# Altium footprint library resistencias_smd.PCBLIB: 183 footprints (part 5 of 12)
Each footprint in its own frame and in the unit in brackets; x right, y up, seen from the top. Pads: shape width x height; smd on the part's side, far side on the other; paste and mask are expansions set on the pad; w line width, h text height; cw(c..) or ccw(c..) is an arc to the next point about the centre after c.
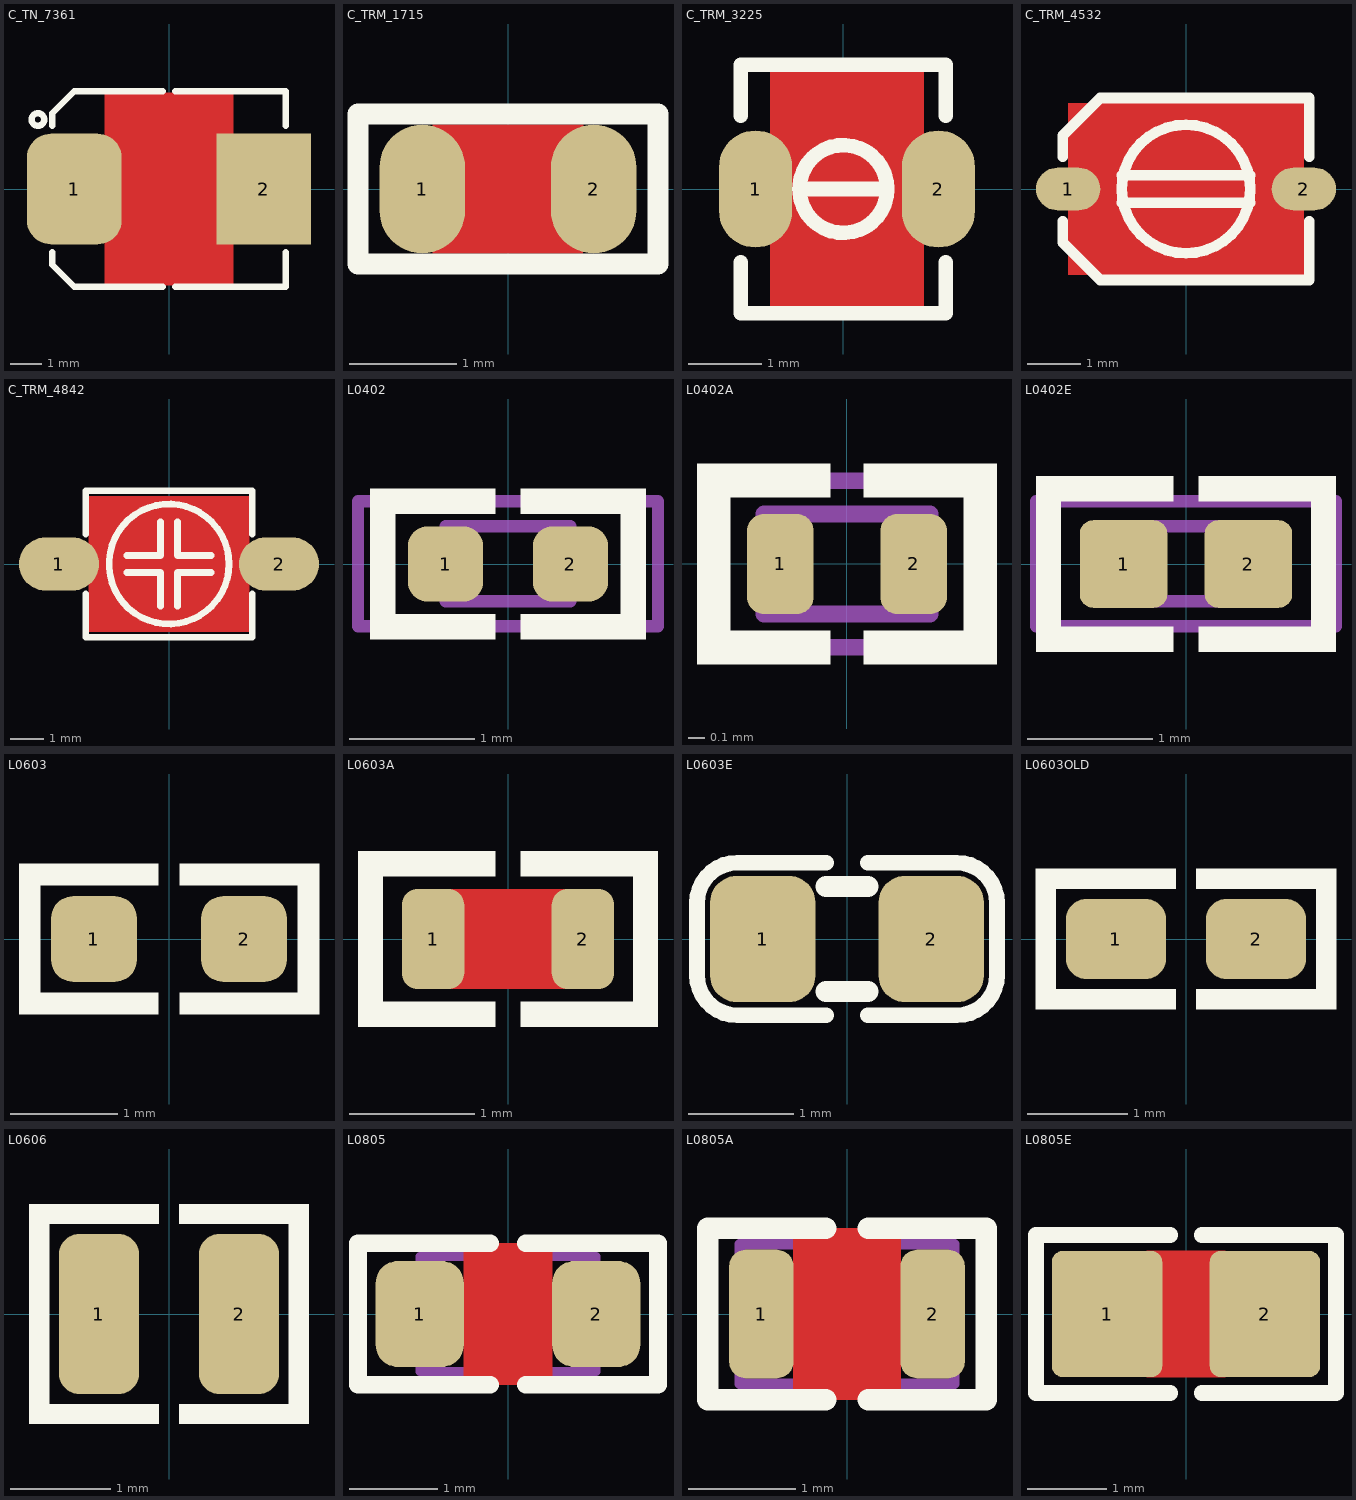
[diagram p4: the footprints below, top view; thin cyan lines are the x and y axes]

## C_TN_7361 [mm] "CAPACITOR, TAN V, 2924, 7361, 7.3X6.1mm"
pads (2):
  rrect50% 3x3.5 smd: 1(-3,0)
  rect 3x3.5 smd: 2(3,0)
Top Layer:
  pour cut-out: -2.032,3.048 -2.032,-3.048 2.032,-3.048 2.032,3.048
Top Overlay:
  circle w0.2: c-4.15,2.2 r0.2
  lines w0.2: -3.7,-2 -3.7,-2.4 -3,-3.1 -0.2,-3.1 ; -3.7,2 -3.7,2.4 -3,3.1 -0.2,3.1 ; 0.2,-3.1 3.7,-3.1 3.7,-2 ; 0.2,3.1 3.7,3.1 3.7,2
3D body "User Library-CT_V.step": height 3.45, standoff 0, extent -3.65,-3.05 3.65,3.05

## C_TRM_1715 [mm] "Cap, Trimmer TZR1 1.7mmX1.5mm"
pads (2):
  oval 0.8x1.2 smd mask+0.075: 1(-0.8,0) 2(0.8,0)
Top Layer:
  pour cut-out: -0.7,0.6 0.7,0.6 0.7,-0.6 -0.7,-0.6
Top Overlay:
  lines w0.2: -1.4,-0.7 -1.4,0.7 1.4,0.7 1.4,-0.7 -1.4,-0.7
3D body "User Library-TZR1.STEP": height 1, standoff -0.01, extent -0.864,-0.75 0.85,0.75

## C_TRM_3225 [mm] "Cap, Trimmer TZY2 3.2mmX2.5mm"
pads (2):
  oval 1x1.6 smd: 1(-1.2,0) 2(1.3,0)
Top Layer:
  pour cut-out: -1,1.7 1.1,1.7 1.1,-1.6 -1,-1.6
Top Overlay:
  circle w0.2: c0,0 r0.6
  lines w0.2: -1.4,-1 -1.4,-1.7 1.4,-1.7 1.4,-1 ; -1.4,1 -1.4,1.7 1.4,1.7 1.4,1 ; -0.6,0 0.6,0
3D body "User Library-tzy2seriestrimcap.step": height 1.24, standoff -0.01, extent -1.25,-1.6 1.25,1.6

## C_TRM_4532 [mm] "Cap, Trimmer TZC3 4.5X3.2mm"
pads (2):
  oval 1.2x0.8 smd: 1(-2.2,0) 2(2.2,0)
Top Layer:
  pour cut-out: -2.2,1.6 2.2,1.6 2.2,-1.6 -2.2,-1.6
Top Overlay:
  circle w0.2: c0,0 r1.2
  lines w0.2: -2.3,-0.6 -2.3,-1 -1.6,-1.7 2.3,-1.7 2.3,-0.6 ; -2.3,0.6 -2.3,1 -1.6,1.7 2.3,1.7 2.3,0.6 ; -1.2,-0.254 1.2,-0.254 ; -1.2,0.254 1.2,0.254
3D body "User Library-TZC3P300A110R00.STEP": height 1.6, standoff 0, extent -2.25,-1.6 2.25,1.6

## C_TRM_4842 [mm] "Cap, Trimmer SMD 4.8x4.2mm"
pads (2):
  oval 2.4x1.6 smd: 1(-3.3,0) 2(3.3,0)
Top Layer:
  pour cut-out: -2.413,2.032 2.413,2.032 2.413,-2.032 -2.413,-2.032
Top Overlay:
  circle w0.2: c0,0 r1.8
  lines w0.2: -2.5,-0.9 -2.5,-2.2 2.5,-2.2 2.5,-0.9 ; -2.5,0.9 -2.5,2.2 2.5,2.2 2.5,0.9 ; -1.27,-0.254 -0.254,-0.254 -0.254,-1.27 ; -1.27,0.254 -0.254,0.254 -0.254,1.27 ; 0.254,-1.27 0.254,-0.254 1.27,-0.254 ; 0.254,1.27 0.254,0.254 1.27,0.254
3D body "User Library-trimmer.step": height 3.25, standoff 0, extent -3.523,-2.1 3.523,2.1

## L0402 [mm] "INDUCTOR, FERRITE BEAD, 0402, 1.0X0.5mm"
height 0.4
pads (2):
  rrect50% 0.6x0.6 smd mask+0.075: 1(-0.5,0) 2(0.5,0)
Top Overlay:
  region: 0.1,-0.4 0.1,-0.6 1.1,-0.6 1.1,-0.4
  region: 0.1,0.4 0.1,0.6 1.1,0.6 1.1,0.4
  region: 1.1,0.6 0.9,0.6 0.9,-0.6 1.1,-0.6
  region: -1.1,0.6 -0.9,0.6 -0.9,-0.6 -1.1,-0.6
  region: -0.1,0.4 -0.1,0.6 -1.1,0.6 -1.1,0.4
  region: -0.1,-0.4 -0.1,-0.6 -1.1,-0.6 -1.1,-0.4
Mechanical 13:
  lines w0.1: -0.5,-0.3 0.5,-0.3 0.5,0.3 -0.5,0.3 -0.5,-0.3
Mechanical 15:
  lines w0.1: -1.2,-0.5 -1.2,0.5 1.2,0.5 1.2,-0.5 -1.2,-0.5
3D body "User Library-Chip Inductor0402.step": height 0.6, standoff 0, extent -0.5,-0.25 0.5,0.25

## L0402A [mm] "INDUCTOR, FERRITE BEAD, 0402, 1.0X0.5mm"
height 0.4
pads (2):
  rrect50% 0.4x0.6 smd mask+0.075: 1(-0.4,0) 2(0.4,0)
Top Overlay:
  region: 0.1,-0.4 0.1,-0.6 0.9,-0.6 0.9,-0.4
  region: 0.1,0.4 0.1,0.6 0.9,0.6 0.9,0.4
  region: 0.9,0.6 0.7,0.6 0.7,-0.6 0.9,-0.6
  region: -0.9,0.6 -0.7,0.6 -0.7,-0.6 -0.9,-0.6
  region: -0.1,0.4 -0.1,0.6 -0.9,0.6 -0.9,0.4
  region: -0.1,-0.4 -0.1,-0.6 -0.9,-0.6 -0.9,-0.4
Mechanical 13:
  lines w0.1: -0.5,-0.3 -0.5,0.3 0.5,0.3 0.5,-0.3 -0.5,-0.3
Mechanical 15:
  lines w0.1: -0.8,-0.5 0.8,-0.5 0.8,0.5 -0.8,0.5 -0.8,-0.5
3D body "User Library-Chip Inductor0402.step": height 0.6, standoff 0, extent -0.5,-0.25 0.5,0.25

## L0402E [mm] "INDUCTOR, FERRITE BEAD, 0402, 1.0X0.5mm, EXPANDED PAD"
height 0.4
pads (2):
  rrect30% 0.7x0.7 smd mask+0.075: 1(-0.5,0) 2(0.5,0)
Top Overlay:
  region: 1.2,0.7 1,0.7 1,-0.7 1.2,-0.7
  region: 0.1,0.5 0.1,0.7 1.2,0.7 1.2,0.5
  region: 0.1,-0.5 0.1,-0.7 1.2,-0.7 1.2,-0.5
  region: -0.1,-0.5 -0.1,-0.7 -1.2,-0.7 -1.2,-0.5
  region: -0.1,0.5 -0.1,0.7 -1.2,0.7 -1.2,0.5
  region: -1.2,0.7 -1,0.7 -1,-0.7 -1.2,-0.7
Mechanical 13:
  lines w0.1: -0.5,-0.3 -0.5,0.3 0.5,0.3 0.5,-0.3 -0.5,-0.3
Mechanical 15:
  lines w0.1: -1.2,-0.5 1.2,-0.5 1.2,0.5 -1.2,0.5 -1.2,-0.5
3D body "User Library-Chip Inductor0402.step": height 0.6, standoff 0, extent -0.5,-0.25 0.5,0.25

## L0603 [mm] "INDUCTOR, FERRITE BEAD, 0603, 1.6X0.8mm"
height 0.6
pads (2):
  rrect50% 0.8x0.8 smd mask+0.05: 1(-0.7,0) 2(0.7,0)
Top Overlay:
  region: 0.1,-0.5 0.1,-0.7 1.4,-0.7 1.4,-0.5
  region: 0.1,0.5 0.1,0.7 1.4,0.7 1.4,0.5
  region: 1.4,0.7 1.2,0.7 1.2,-0.7 1.4,-0.7
  region: -1.4,0.7 -1.2,0.7 -1.2,-0.7 -1.4,-0.7
  region: -0.1,0.5 -0.1,0.7 -1.4,0.7 -1.4,0.5
  region: -0.1,-0.5 -0.1,-0.7 -1.4,-0.7 -1.4,-0.5
3D body "User Library-Chip Inductor0603.step": height 0.95, standoff 0, extent -0.8,-0.4 0.8,0.4

## L0603A [mm] "INDUCTOR, FERRITE BEAD, 0603, 1.6X0.8mm"
height 0.6
pads (2):
  rrect50% 0.5x0.8 smd mask+0.075: 1(-0.6,0) 2(0.6,0)
Top Layer:
  pour cut-out: -0.5,0.4 0.5,0.4 0.5,-0.4 -0.5,-0.4
Top Overlay:
  region: -1.2,0.7 -1,0.7 -1,-0.7 -1.2,-0.7
  region: -0.1,0.5 -0.1,0.7 -1.2,0.7 -1.2,0.5
  region: -0.1,-0.5 -0.1,-0.7 -1.2,-0.7 -1.2,-0.5
  region: 0.1,-0.5 0.1,-0.7 1.2,-0.7 1.2,-0.5
  region: 0.1,0.5 0.1,0.7 1.2,0.7 1.2,0.5
  region: 1.2,0.7 1,0.7 1,-0.7 1.2,-0.7
3D body "User Library-Chip Inductor0603.step": height 0.95, standoff 0, extent -0.8,-0.4 0.8,0.4

## L0603E [mm] "INDUCTOR, FERRITE BEAD, 0603, 1.6X0.8mm, EXPANDED PAD"
height 0.6
pads (2):
  rrect50% 1x1.2 smd mask+0.05: 1(-0.8,0) 2(0.8,0)
Top Overlay:
  lines w0.15: -0.2,-0.725 -1.042,-0.725 cw(c-1.042,-0.342) -1.425,-0.342 -1.425,0.342 cw(c-1.042,0.342) -1.042,0.725 -0.2,0.725 ; 0.2,-0.725 1.042,-0.725 ccw(c1.042,-0.342) 1.425,-0.342 1.425,0.342 ccw(c1.042,0.342) 1.042,0.725 0.2,0.725
  lines w0.2: -0.2,-0.5 0.2,-0.5 ; -0.2,0.5 0.2,0.5
3D body "User Library-Chip Inductor0603.step": height 0.95, standoff 0, extent -0.8,-0.4 0.8,0.4

## L0603OLD [mm] "INDUCTOR, FERRITE BEAD, 0603, 1.6X0.8mm"
height 0.6
pads (2):
  rrect50% 1x0.8 smd mask+0.05: 1(-0.7,0) 2(0.7,0)
Top Overlay:
  region: -0.1,-0.5 -0.1,-0.7 -1.5,-0.7 -1.5,-0.5
  region: -0.1,0.5 -0.1,0.7 -1.5,0.7 -1.5,0.5
  region: -1.5,0.7 -1.3,0.7 -1.3,-0.7 -1.5,-0.7
  region: 1.5,0.7 1.3,0.7 1.3,-0.7 1.5,-0.7
  region: 0.1,0.5 0.1,0.7 1.5,0.7 1.5,0.5
  region: 0.1,-0.5 0.1,-0.7 1.5,-0.7 1.5,-0.5
3D body "User Library-Chip Inductor0603.step": height 0.95, standoff 0, extent -0.8,-0.4 0.8,0.4

## L0606 [mm] "INDUCTOR, FERRITE BEAD, 0603, 1.6X1.6mm"
height 0.6
pads (2):
  rrect50% 0.8x1.6 smd mask+0.05: 1(-0.7,0) 2(0.7,0)
Top Overlay:
  region: -0.1,-0.9 -0.1,-1.1 -1.4,-1.1 -1.4,-0.9
  region: -0.1,0.9 -0.1,1.1 -1.4,1.1 -1.4,0.9
  region: -1.4,1.1 -1.2,1.1 -1.2,-1.1 -1.4,-1.1
  region: 1.4,1.1 1.2,1.1 1.2,-1.1 1.4,-1.1
  region: 0.1,0.9 0.1,1.1 1.4,1.1 1.4,0.9
  region: 0.1,-0.9 0.1,-1.1 1.4,-1.1 1.4,-0.9
3D body: height 0.1, standoff 0, extent 0.3,-0.8 0.7,0.8
3D body: height 0.1, standoff 0, extent -0.7,-0.8 -0.3,0.8
3D body: height 0.3, standoff 0.1, extent -0.8,-0.8 0.8,0.8
3D body: height 0.7, standoff 0.1, extent -0.5,-0.5 0.5,0.5
3D body: height 1, standoff 0.7, extent -0.8,-0.8 0.8,0.8

## L0805 [mm] "INDUCTOR, FERRITE BEAD, 0805, 2.0X1.3mm"
pads (2):
  rrect50% 1x1.2 smd mask+0.075: 1(-1,0) 2(1,0)
Top Layer:
  pour cut-out: -0.5,0.8 0.5,0.8 0.5,-0.8 -0.5,-0.8
Top Overlay:
  lines w0.2: -0.2,-0.8 -1.7,-0.8 -1.7,0.8 -0.2,0.8 ; 0.2,-0.8 1.7,-0.8 1.7,0.8 0.2,0.8
Mechanical 13:
  lines w0.1: -1,-0.65 1,-0.65 1,0.65 -1,0.65 -1,-0.65
3D body "User Library-ind_0805.step": height 0.95, standoff 0, extent -1,-0.6 1,0.6

## L0805A [mm] "INDUCTOR, 2.0X1.3mm, 0805, for PCBA"
pads (2):
  rrect50% 0.6x1.2 smd mask+0.075: 1(-0.8,0) 2(0.8,0)
Top Layer:
  pour cut-out: -0.5,0.8 0.5,0.8 0.5,-0.8 -0.5,-0.8
Top Overlay:
  lines w0.2: -0.2,-0.8 -1.3,-0.8 -1.3,0.8 -0.2,0.8 ; 0.2,-0.8 1.3,-0.8 1.3,0.8 0.2,0.8
Mechanical 13:
  lines w0.1: -1,-0.65 1,-0.65 1,0.65 -1,0.65 -1,-0.65
3D body "User Library-ind_0805.step": height 0.95, standoff 0, extent -1,-0.6 1,0.6

## L0805E [mm] "INDUCTOR, FERRITE BEAD, 0805, EXPANDED PAD"
pads (2):
  rrect20% 1.4x1.6 smd mask+0.1: 1(-1,0) 2(1,0)
Top Layer:
  pour cut-out: -0.5,0.8 0.5,0.8 0.5,-0.8 -0.5,-0.8
Top Overlay:
  lines w0.2: -0.2,-1 -1.9,-1 -1.9,1 -0.2,1 ; 0.2,-1 1.9,-1 1.9,1 0.2,1
3D body "User Library-ind_0805.step": height 0.95, standoff 0, extent -1,-0.6 1,0.6